# EAGLE library part LIS331 (library SparkFun)
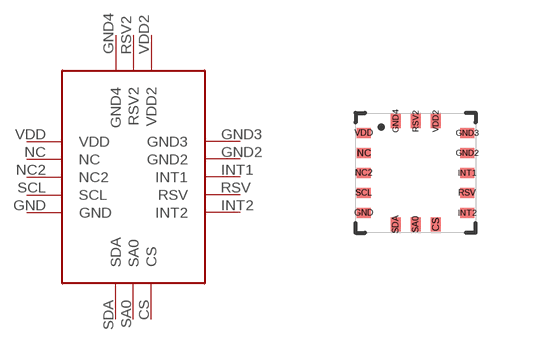
[diagram p303: symbol with the pads of LIS331; footprint LIS331]

Designator prefix -

## LIS331  [LIS331]
CS  CS
GND  GND
GND2  GND2
GND3  GND3
GND4  GND4
INT1  INT1
INT2  INT2
NC  NC
NC2  NC2
RSV  RSV
RSV2  RSV2
SA0  SA0
SCL  SCL
SDA  SDA
VDD  VDD
VDD2  VDD2

## Footprint LIS331 (pad centres in mm)
smd 0.25 x 0.35: CS 2,0.21; GND4 1,2.79; RSV2 1.5,2.79; SA0 1.5,0.21; SDA 1,0.21; VDD2 2,2.79
smd 0.35 x 0.25: GND 0.21,0.5; GND2 2.79,2; GND3 2.79,2.5; INT1 2.79,1.5; INT2 2.79,0.5; NC 0.21,2; NC2 0.21,1.5; RSV 2.79,1; SCL 0.21,1; VDD 0.21,2.5